# EAGLE library part ISO3082 (library serial_interfaces)
ISO308x Isolated 5-V Full- and Half-Duplex RS-485 Transceivers
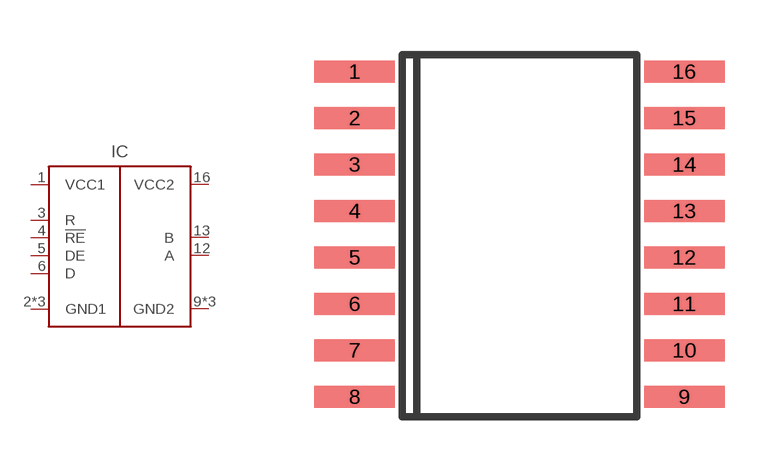
[diagram p17: symbol with the pads of SO-16W; footprint SO-16W]

Designator prefix IC

## ISO3082 (MANF: Texas Instruments; MANF#: ISO3082DW)  [SO-16W]
1  VCC1
2  GND1
3  R
4  !RE
5  DE
6  D
7  GND1
8  GND1
9  GND2
10  GND2
12  A
13  B
15  GND2
16  VCC2

## Footprint SO-16W (pad centres in mm)
Small Outline Narrow Plastic Gull Wing 150-mil body, package type SL
smd 2.2 x 0.6: 1 -4.5,4.445; 2 -4.5,3.175; 3 -4.5,1.905; 4 -4.5,0.635; 5 -4.5,-0.635; 6 -4.5,-1.905; 7 -4.5,-3.175; 8 -4.5,-4.445; 9 4.5,-4.445; 10 4.5,-3.175; 11 4.5,-1.905; 12 4.5,-0.635; 13 4.5,0.635; 14 4.5,1.905; 15 4.5,3.175; 16 4.5,4.445